# Altium schematic symbol library NMOS.SchLib: 1 symbol
Pins are listed as number, name and electrical type; pins without a type are passive.

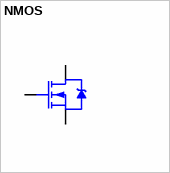
[diagram p0: symbol NMOS]

## NMOS
designator Q?
Manufacturer_id: 1; idFuse: 3; Name: 3568 Mini Fuse Holder; Drawer_id: 1
pins: D Drain, G Gate, S Source